# Altium schematic symbol library AMMDK Parts.SchLib: 29 symbols
Pins are listed as number, name and electrical type; pins without a type are passive.

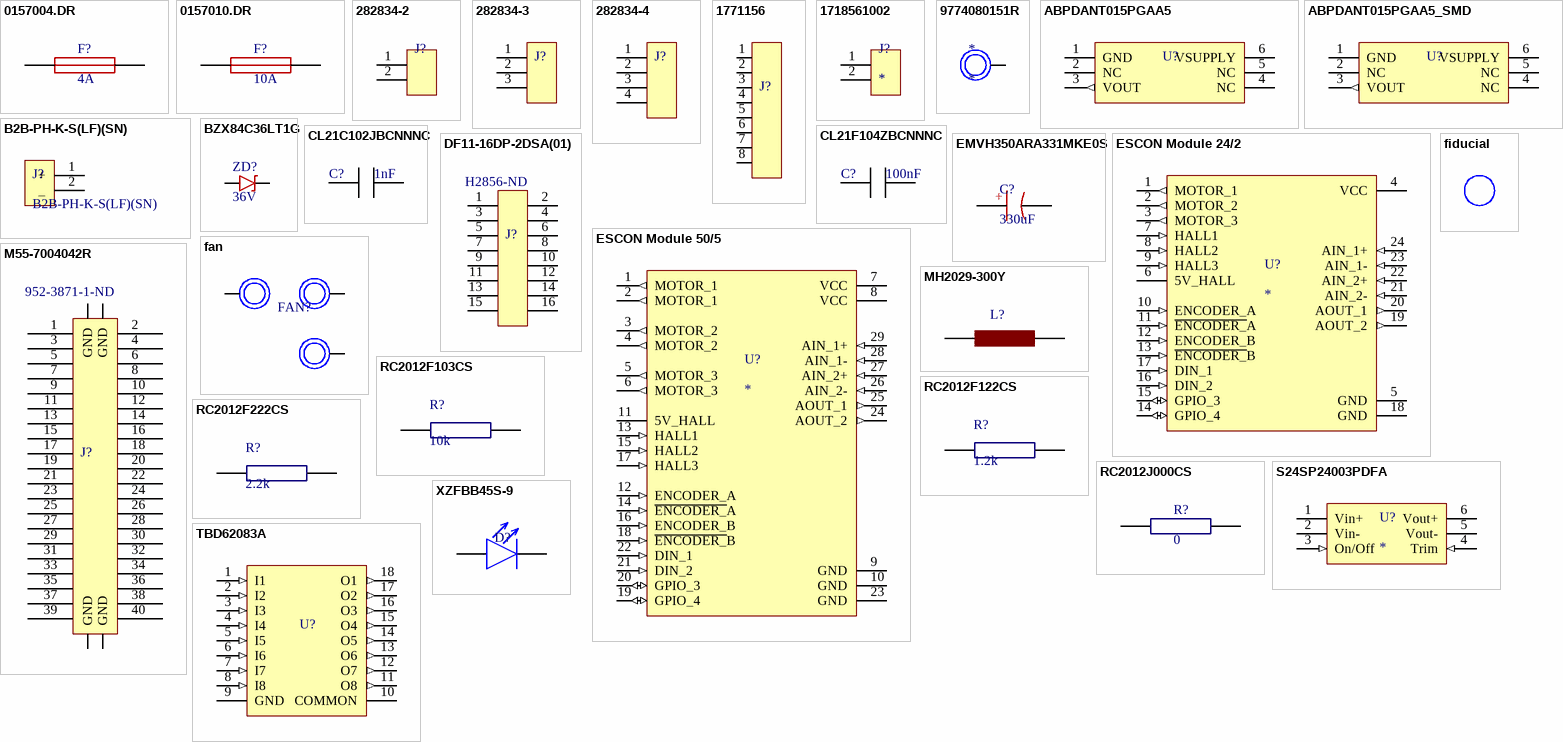
[diagram p0: symbols 0157004.DR to XZFBB45S-9]

## 0157004.DR
designator F?, comment 4A
FUSE BRD MNT 4A 125VAC/VDC 2SMD; Supplier 1: Digi-Key; Supplier Part Number 1: F2968CT-ND
footprint 0157004.DR
pins: 1, 2

## 0157010.DR
designator F?, comment 10A
FUSE BRD MNT 10A 125VAC/VDC SMD; Manufacturer: Littelfuse Inc.; Manufacturer Part Number: 0157010.DR; Fuse Type: Board Mount (Cartridge Style Excluded); Response Time: Fast; Breaking Capacity @ Rated Voltage: 35A AC, 50A DC; Approvals: cULus, PSE; Supplier 1: Digi-Key; RoHS: RoHS Compliant; Category: Circuit Protection; Stock 1: 6229; Pricing 1: 1=2.73, 5=2.6, 10=2.47, 50=1.9936, 100=1.6903, 250=1.64692, 500=1.38688 (USD); Packaging: Cut Tape (CT); Part Status: Active; Package / Case: 2-SMD, Square End Block with Clip; Mounting Type: Holder, Surface Mount; Operating Temperature: -55°C ~ 125°C; Color: -; Size / Dimension: 0.256" L x 0.146" W x 0.154" H (6.50mm x 3.70mm x 3.90mm); ComponentLink1URL: http://www.littelfuse.com/products/fuse-blocks-fuseholders-and-fuse-accessories/fuse-clips/~/media/electronics/datasheets/fuses/littelfuse_fuse_157_datasheet.pdf.pdf; ComponentLink1Description: http://www.littelfuse.com/products/fuse-blocks-fuseholders-and-fuse-accessories/fuse-clips/~/media/electronics/datasheets/fuses/littelfuse_fuse_157_datasheet.pdf.pdf; Supplier Part Number 1: F2973CT-ND
footprint 0157004.DR
pins: 1, 2

## 282834-2
designator J?  (value not drawn)
2 Position Wire to Board Terminal Block; Supplier 1: Digi-Key; Supplier Part Number 1: A98333-ND
footprint 282834-2
pins: 1, 2

## 282834-3
designator J?  (value not drawn)
3 Position Wire to Board Terminal Block; Supplier 1: Digi-Key; Supplier Part Number 1: A98334-ND
footprint 282834-3
pins: 1, 2, 3

## 282834-4
designator J?  (value not drawn)
4 Position Wire to Board Terminal Block; Supplier 1: Digi-Key; Supplier Part Number 1: A98335-ND
footprint 282834-4
pins: 1, 2, 3, 4

## 1771156
designator J?  (value not drawn)
CONN TERM BLK 8POS 2.5MM SMD; Manufacturer: Phoenix Contact; Positions Per Level: 8; Pitch: 0.098" (2.50mm); Mating Orientation: Vertical with Board; Wire Gauge: 20-26 AWG; Wire Termination: Screwless - Spring Cage, Tension Clamp; Supplier 1: Digi-Key; Manufacturer Part Number: 1771156; RoHS: RoHS Compliant; Category: Connectors, Interconnects; Stock 1: 2856; Pricing 1: 1=1.39, 10=1.334, 50=1.276, 100=1.2412 (USD); Packaging: Cut Tape (CT); Part Status: Active; Mounting Type: Surface Mount; Features: Solder Retention; Color: Black; Operating Temperature: -; Housing Material: Liquid Crystal Polymer (LCP); Contact Material - Plating: -; Clamp Material - Plating: -; Screw Material - Plating: -; Torque - Screw: -; Screw Thread: -; ComponentLink1URL: https://media.digikey.com/pdf/Data%20Sheets/Phoenix%20Contact%20PDFs/1771156.pdf; ComponentLink1Description: https://media.digikey.com/pdf/Data%20Sheets/Phoenix%20Contact%20PDFs/1771156.pdf; Supplier Part Number 1: 277-2078-1-ND
footprint 1771156 (CONN TERM BLK 8POS 2.5MM SMD)
pins: 1, 2, 3, 4, 5, 6, 7, 8

## 1718561002
designator J?
Headers & Wire Housings KK Hdr Vrt 2 Ckt 2.54mm Pitch 15um Au; Manufacturer: Molex; Manufacturer Part Number: 1718561002; Current Rating: 4A; Voltage Rating: 250V; Number of Positions: 2; Connector Type: Male Pin; Contact Post Length: 2.34mm; Glow Wire Compliant: Compliant; Supplier 1: Digi-Key; Stock 1: 499; Pricing 1: 1=0.45, 10=0.426, 100=0.2979, 500=0.2554, 1000=0.2128, 5000=0.1824, 10000=0.1702 (USD); Mount: Through Hole; Weight: 0.007549oz; Color: Black; Contact Plating: Gold; Contact Material: Brass; Housing Material: Nylon; Min Operating Temperature: -40°C; Max Operating Temperature: 105°C; Package Quantity: 6000; Packaging: Bulk; Number of Rows: 1; Fastening Type: Friction; Contact Gender: Male; Termination: Solder; Number of Contacts: 2; Orientation: Vertical; Number of Circuits: 2; Pitch: 2.54mm; Contact Mating Length: 0.293inch; Radiation Hardening: No; Halogen Free: Low Halogen; Flammability Rating: UL94 V-2; ComponentLink1URL: http://www.mouser.com/ds/2/276/1718561002_PCB_HEADERS-294894.pdf?src-supplier=Mouser; ComponentLink1Description: http://www.mouser.com/ds/2/276/1718561002_PCB_HEADERS-294894.pdf?src-supplier=Mouser; Supplier Part Number 1: WM10286-ND
footprint 1718561002
pins: 1, 2

## 9774080151R
designator *
RND STANDOFF M2.5X0.45 STEEL 8MM; Manufacturer: Wurth Electronics; Manufacturer Part Number: 9774080151R; Plating: Tin; Threaded/Unthreaded: Threaded; Outside Diameter: 0.201inch; Supplier 1: Digi-Key; Stock 1: 236; Pricing 1: 1=0.95, 10=0.918, 50=0.795, 100=0.739 (USD); Material: Steel; Length: 0.37inch; REACH SVHC: Unknown; Supplier Part Number 1: 732-7110-1-ND
footprint 9774080151r (M2.5 Standoff)
pins: 1

## ABPDANT015PGAA5
designator U?  (value not drawn)
Pressure Sensor 15 PSIG; Supplier 1: Digi-Key; Supplier Part Number 1: 480-6253-ND
footprint DIP6
pins: 1 GND (power), 2 NC, 3 VOUT (out), 4 NC, 5 NC, 6 VSUPPLY (power)

## ABPDANT015PGAA5_SMD
designator U?  (value not drawn)
Pressure Sensor 15 PSIG; Supplier 1: Digi-Key; Supplier Part Number 1: 480-6253-ND; Supplier 2: Digi-Key; Supplier Part Number 2: SAM1148-03-ND
footprint DIP6 SMD
pins: 1 GND (power), 2 NC, 3 VOUT (out), 4 NC, 5 NC, 6 VSUPPLY (power)

## B2B-PH-K-S(LF)(SN)
designator J?
2 Positions Header, Shrouded Connector 0.079" (2.00mm) Through Hole Tin; Manufacturer: JST; Connector Type: Male Pin; Contact Resistance: 20mR; Max Current Rating: 2A; Number of Positions: 2; Max Voltage Rating (AC): 100V; Insulation Resistance: 1MR; Gender: Male; Pitch: 2mm; Supplier 1: Digi-Key; Manufacturer Part Number: B2B-PH-K-S(LF)(SN); Stock 1: 186780; Pricing 1: 1=0.17, 10=0.162, 100=0.1002, 500=0.08288, 1000=0.07252, 5000=0.06216, 10000=0.06044 (USD); Mount: Through Hole; Number of Pins: 2; Contact Material: Brass,Tin; Contact Plating: Copper,Tin; Colour: Natural; Housing Colour: White; Housing Material: Polyamide; Min Operating Temperature: -25°C; Max Operating Temperature: 85°C; Termination: Solder; Number of Rows: 1; Current Rating: 2A; Packaging: Bulk; Fastening Type: Detent; Number of Contacts: 2; Working Voltage: 100V; Orientation: Straight; Number of Poles: 2; Voltage Rating: 100V; Voltage Rating (AC): 100V; Max Voltage Rating (DC): 100V; Length: 5.9mm; Height: 9.4mm; Width: 4.5mm; Depth: 4.5mm; Lead Pitch: 2mm; Contact Mating Length: 0.13inch; REACH SVHC: No SVHC; Lead Free: Lead Free; ComponentLink1URL: https://datasheet.ciiva.com/6747/80560-6747392.pdf; ComponentLink1Description: https://datasheet.ciiva.com/6747/80560-6747392.pdf; ComponentLink2URL: https://datasheet.ciiva.com/11746/0900766b8082f551-11746676.pdf; ComponentLink2Description: https://datasheet.ciiva.com/11746/0900766b8082f551-11746676.pdf; ComponentLink3URL: https://datasheet.ciiva.com/8052/80560-8052022.pdf; ComponentLink3Description: https://datasheet.ciiva.com/8052/80560-8052022.pdf; ComponentLink4URL: https://datasheet.ciiva.com/712/eph-712442.pdf; ComponentLink4Description: https://datasheet.ciiva.com/712/eph-712442.pdf; ComponentLink5URL: https://datasheet.ciiva.com/16422/b2b-ph-k-slfsn-16422715.pdf; ComponentLink5Description: https://datasheet.ciiva.com/16422/b2b-ph-k-slfsn-16422715.pdf; Supplier Part Number 1: 455-1704-ND
footprint B2B-PH-K-S(LF)(SN)
pins: 1 + (power), 2 _ (power)

## BZX84C36LT1G
designator ZD?, comment 36V
Zener Diode 36V 225mW ±6%; Supplier 1: Digi-Key; Supplier Part Number 1: BZX84C36LT1GOSCT-ND
footprint SOT95P237X111-3N (SOT23, 3-Leads, Body 2.92x2.37mm, Pitch 0.95mm, IPC Medium Density); pin to pad A>1 K>3
pins: A, K

## CL21C102JBCNNNC
designator C?, comment 1nF
CAP CER 1nF 50V C0G/NP0 0805; Manufacturer: Samsung Electro-Mechanics America, Inc.; Manufacturer Part Number: CL21F104ZBCNNNC; Capacitance: 0.10µF; Tolerance: -20%, +80%; Temperature Coefficient: Y5V (F); RoHS: RoHS Compliant; Category: Capacitors; Packaging: Cut Tape (CT); Voltage - Rated: 50V; Mounting Type: Surface Mount, MLCC; Operating Temperature: -30°C ~ 85°C; Applications: General Purpose; Ratings: -; Package / Case: 0805 (2012 Metric); Size / Dimension: 0.079" L x 0.049" W (2.00mm x 1.25mm); Height - Seated (Max): -; Thickness (Max): 0.037" (0.95mm); Lead Spacing: -; Features: -; Lead Style: -; ComponentLink1URL: http://www.samsungsem.com/kr/support/product-search/mlcc/CL21F104ZBCNNNC.jsp; ComponentLink1Description: http://www.samsungsem.com/kr/support/product-search/mlcc/CL21F104ZBCNNNC.jsp; Supplier 1: Digi-Key; Supplier Part Number 1: 1276-1147-1-ND
footprint CAPC2012X09N (Chip Capacitor, 2-Leads, Body 2.00x1.25mm, IPC Medium Density)
pins: 1, 2

## CL21F104ZBCNNNC
designator C?, comment 100nF
CAP CER 0.1UF 50V Y5V 0805; Manufacturer: Samsung Electro-Mechanics America, Inc.; Manufacturer Part Number: CL21F104ZBCNNNC; Capacitance: 0.10µF; Tolerance: -20%, +80%; Temperature Coefficient: Y5V (F); Supplier 1: Digi-Key; RoHS: RoHS Compliant; Category: Capacitors; Stock 1: 1030146; Pricing 1: 1=0.1, 10=0.031, 25=0.022, 50=0.017, 100=0.0144, 500=0.01004, 1000=0.00783 (USD); Packaging: Cut Tape (CT); Voltage - Rated: 50V; Mounting Type: Surface Mount, MLCC; Operating Temperature: -30°C ~ 85°C; Applications: General Purpose; Ratings: -; Package / Case: 0805 (2012 Metric); Size / Dimension: 0.079" L x 0.049" W (2.00mm x 1.25mm); Height - Seated (Max): -; Thickness (Max): 0.037" (0.95mm); Lead Spacing: -; Features: -; Lead Style: -; ComponentLink1URL: http://www.samsungsem.com/kr/support/product-search/mlcc/CL21F104ZBCNNNC.jsp; ComponentLink1Description: http://www.samsungsem.com/kr/support/product-search/mlcc/CL21F104ZBCNNNC.jsp; Supplier Part Number 1: 1276-1007-1-ND
footprint CAPC2012X09N (Chip Capacitor, 2-Leads, Body 2.00x1.25mm, IPC Medium Density)
pins: 1, 2

## DF11-16DP-2DSA(01)
designator J?  Supplier Part Number 1: H2856-ND  (hidden comment: *)
Headers & Wire Housings 2MM V PCB HEADER 16P DR THRU-HOLE GLD; Manufacturer: Hirose Connector; Manufacturer Part Number: DF11-16DP-2DSA(01); Current Rating: 2 A; Mounting Angle: Vertical; Number of Positions: 16 Position; Voltage Rating: 250 V; RoHS: RoHS Compliant; Category: Headers & Wire Housings; Contact Plating: Gold; Number of Rows: 2 Row; Packaging: Bulk; Product: Headers; Series: DF11; Termination Style: Through Hole; Type: Shrouded; Brand: Hirose Connector; Contact Material: Brass; Mounting Style: -; Pitch: 2 mm; Standard Pack Qty: 100; RoHS - Mouser: Y; Minimum Order Quantity: 1; Reeling: False; ComponentLink1URL: http://www.mouser.com/datasheet/2/185/DF11_catalog-939040.pdf; ComponentLink1Description: http://www.mouser.com/datasheet/2/185/DF11_catalog-939040.pdf; Supplier 1: Digi-Key
footprint DF11-16DP-2DSA(01)_FLIP
pins: 1 (power), 2 (power), 3 (power), 4 (power), 5 (power), 6 (power), 7 (power), 8 (power), 9 (power), 10 (power), 11 (power), 12 (power), 13 (power), 14 (power), 15 (power), 16 (power)

## EMVH350ARA331MKE0S
designator C?, comment 330uF
CAP ALUM 330UF 20% 35V SMD; Supplier 1: Digi-Key; Supplier Part Number 1: 565-2316-1-ND
footprint CAPAE137130X140M (Aluminum Electrolytic Capacitor, Body 13.00x13.00x14.00mm, IPC Low Density)
pins: 1, 2
text: +

## ESCON Module 24/2
designator U?
4-Q servo controller for DC/EC motors, 2/6 A, 10-24 VDC
footprint ESCON Module 24/2
pins: 1 MOTOR_1 (out), 2 MOTOR_2 (out), 3 MOTOR_3 (out), 4 VCC (power), 5 GND (power), 6 5V_HALL (power), 7 HALL1 (in), 8 HALL2 (in), 9 HALL3 (in), 10 ENCODER_A (in), 11 ~{ENCODER_}A (in), 12 ENCODER_B (in), 13 ~{ENCODER_}B (in), 14 GPIO_4 (io), 15 GPIO_3 (io), 16 DIN_2 (in), 17 DIN_1 (in), 18 GND (power), 19 AOUT_2 (out), 20 AOUT_1 (out), 21 AIN_2- (in), 22 AIN_2+ (in), 23 AIN_1- (in), 24 AIN_1+ (in)

## ESCON Module 50/5
designator U?
4-Q servo controller for DC/EC motors, 2/6 A, 10-50 VDC; Supplier 1: Digi-Key; Supplier 2: Digi-Key; Supplier Part Number 1: SAM1152-11-ND; Supplier Part Number 2: SAM1146-09-ND
footprint ESCON Module 50/5 SMD
pins: 1 MOTOR_1 (out), 2 MOTOR_1 (out), 3 MOTOR_2 (out), 4 MOTOR_2 (out), 5 MOTOR_3 (out), 6 MOTOR_3 (out), 7 VCC (power), 8 VCC (power), 9 GND (power), 10 GND (power), 11 5V_HALL (power), 12 ENCODER_A (in), 13 HALL1 (in), 14 ~{ENCODER_}A (in), 15 HALL2 (in), 16 ENCODER_B (in), 17 HALL3 (in), 18 ~{ENCODER_}B (in), 19 GPIO_4 (io), 20 GPIO_3 (io), 21 DIN_2 (in), 22 DIN_1 (in), 23 GND (power), 24 AOUT_2 (out), 25 AOUT_1 (out), 26 AIN_2- (in), 27 AIN_2+ (in), 28 AIN_1- (in), 29 AIN_1+ (in)

## fan
designator FAN?
RND STANDOFF M2.5X0.45 STEEL 8MM; Manufacturer: Wurth Electronics; Manufacturer Part Number: 9774080151R; Plating: Tin; Threaded/Unthreaded: Threaded; Outside Diameter: 0.201inch; Supplier 1: Digi-Key; Stock 1: 236; Pricing 1: 1=0.95, 10=0.918, 50=0.795, 100=0.739 (USD); Material: Steel; Length: 0.37inch; REACH SVHC: Unknown; Supplier Part Number 1: 732-7110-1-ND
footprint fan (25mm fan)
pins: 1, 2, 3

## fiducial
designator FID?, comment FID?  (value not drawn)
footprint fiducial

## M55-7004042R
designator J?  Supplier Part Number 1: 952-3871-1-ND  (hidden comment: *)
Board to Board & Mezzanine Connectors 40P 1.27 SMC Male; Manufacturer: Harwin; Manufacturer Part Number: M55-7004042R; Current Rating: 1.2 A; Mounting Angle: Straight; Number of Positions: 40 Position; Voltage Rating: 100 V; Pitch: 1.27 mm; Insulation Resistance: 10 GOhms; Stack Height: 6.75 mm; Product Status: New Product; RoHS: RoHS Compliant; Category: Board to Board & Mezzanine Connectors; Contact Plating: Gold; Housing Material: Liquid Crystal Polymer (LCP); Number of Rows: 2 Row; Packaging: Cut Tape; Product: Headers; Termination Style: SMD/SMT; Brand: Harwin; Contact Material: Phosphor Bronze; Flammability Rating: UL 94 V-0; Mounting Style: Mounting Peg; Maximum Operating Temperature: + 125 C; Minimum Operating Temperature: - 55 C; Standard Pack Qty: 500; Termination Post Length: 4 mm; Tradename: Archer Kontrol; RoHS - Mouser: Y; Minimum Order Quantity: 1; Reeling: True; ComponentLink1URL: http://www.mouser.com/datasheet/2/181/M55-70X-1286676.pdf; ComponentLink1Description: http://www.mouser.com/datasheet/2/181/M55-70X-1286676.pdf; Supplier 1: Digi-Key
footprint M55-7004042R_FLIP (M55-7004042R)
pins: 1, 2, 3, 4, 5, 6, 7, 8, 9, 10, 11, 12, 13, 14, 15, 16, 17, 18, 19, 20, 21, 22, 23, 24, 25, 26, 27, 28, 29, 30, 31, 32, 33, 34, 35, 36, 37, 38, 39, 40, GND, GND, GND, GND

## MH2029-300Y
designator L?  (value not drawn)
EMI Filter Beads, Chips & Arrays Impedance 30ohms IDC 3.0; Manufacturer: Bourns; Maximum DC Current: 3 A; Maximum DC Resistance: 25 mOhms; Tolerance: 25 %; Type: High Current Chip Ferrite Bead; Test Frequency: 100 MHz; Filter Type: Power, Signal Line; Number of Lines: 1; Impedance @ Frequency: 30 Ohm @ 100MHz; Current Rating (Max): 3A; DC Resistance (DCR) (Max): 25 mOhm; Manufacturer Part Number: MH2029-300Y; RoHS: RoHS Compliant; Category: EMI Filter Beads, Chips & Arrays; Pricing 1: 1=0.1, 10=0.062, 25=0.0568, 50=0.051, 100=0.0375, 250=0.02724, 500=0.02498, 1000=0.02157 (USD); Capacitance: -; Height: 0.9 mm; Impedance: 30 Ohms; Length: 2 mm; Operating Temperature Range: - 55 C to + 125 C; Package / Case: 0805 (2012 metric); Packaging: Reel; Product: Ferrite Chip Beads; Termination Style: SMD/SMT; Width: 1.2 mm; Brand: Bourns; Product Category: SMD Ferrite Bead; Standard Pack Qty: 4000; RoHS - Mouser: Y; Minimum Order Quantity: 1; Reeling: True; ComponentLink1URL: http://www.mouser.com/ds/2/54/h-777565.pdf; ComponentLink1Description: http://www.mouser.com/ds/2/54/h-777565.pdf; Supplier 1: Digi-Key; Stock 1: 62738; Ratings: -; Operating Temperature: -55°C ~ 125°C; Mounting Type: Surface Mount; Height (Max): 0.043" (1.10mm); Size / Dimension: 0.079" L x 0.047" W (2.00mm x 1.20mm); ComponentLink2URL: http://www.bourns.com/docs/Product-Datasheets/mh.pdf; ComponentLink2Description: http://www.bourns.com/docs/Product-Datasheets/mh.pdf; Supplier Part Number 1: MH2029-300YCT-ND
footprint INDC2012X11N (Chip Inductor, 2-Leads, Body 2.00x1.20mm, IPC Medium Density)
pins: 1, 2

## RC2012F103CS
designator R?, comment 10k
RES SMD 10K OHM 1% 1/8W 0805; Manufacturer: Samsung Electro-Mechanics America, Inc.; Manufacturer Part Number: RC2012F103CS; Power (Watts): 0.125W, 1/8W; Temperature Coefficient: ±100ppm/°C; RoHS: RoHS Compliant; Category: Resistors; Packaging: Cut Tape (CT); Resistance (Ohms): 10k; Tolerance: ±1%; Composition: Thick Film; Features: Moisture Resistant; Operating Temperature: -55°C ~ 155°C; Package / Case: 0805 (2012 Metric); Supplier Device Package: 0805 (2012 Metric); Size / Dimension: 0.079" L x 0.049" W (2.00mm x 1.25mm); Height: 0.024" (0.60mm); Number of Terminations: 2; ComponentLink1URL: http://media.digikey.com/pdf/Data%20Sheets/Samsung%20PDFs/RC_Series_ds.pdf; ComponentLink1Description: http://media.digikey.com/pdf/Data%20Sheets/Samsung%20PDFs/RC_Series_ds.pdf; Supplier 1: Digi-Key; Supplier Part Number 1: 1276-5332-1-ND
footprint RESC2012X07N_SAMSUNG (Chip Resistor, 2-Leads, Body 2.00x1.25mm, IPC Medium Density)
pins: 1, 2

## RC2012F122CS
designator R?, comment 1.2k
RES SMD 1.2K OHM 1% 1/8W 0805; Manufacturer: Samsung Electro-Mechanics America, Inc.; Manufacturer Part Number: RC2012F103CS; Resistance (Ohms): 10k; Power (Watts): 0.125W, 1/8W; Temperature Coefficient: ±100ppm/°C; RoHS: RoHS Compliant; Category: Resistors; Packaging: Cut Tape (CT); Tolerance: ±1%; Composition: Thick Film; Features: Moisture Resistant; Operating Temperature: -55°C ~ 155°C; Package / Case: 0805 (2012 Metric); Supplier Device Package: 0805 (2012 Metric); Size / Dimension: 0.079" L x 0.049" W (2.00mm x 1.25mm); Height: 0.024" (0.60mm); Number of Terminations: 2; ComponentLink1URL: http://media.digikey.com/pdf/Data%20Sheets/Samsung%20PDFs/RC_Series_ds.pdf; ComponentLink1Description: http://media.digikey.com/pdf/Data%20Sheets/Samsung%20PDFs/RC_Series_ds.pdf; Supplier 1: Digi-Key; Supplier Part Number 1: 1276-5275-1-ND
footprint RESC2012X07N_SAMSUNG (Chip Resistor, 2-Leads, Body 2.00x1.25mm, IPC Medium Density)
pins: 1, 2

## RC2012F222CS
designator R?, comment 2.2k
RES SMD 2.2K OHM 1% 1/8W 0805; Manufacturer: Samsung Electro-Mechanics America, Inc.; Manufacturer Part Number: RC2012F103CS; Resistance (Ohms): 10k; Power (Watts): 0.125W, 1/8W; Temperature Coefficient: ±100ppm/°C; RoHS: RoHS Compliant; Category: Resistors; Packaging: Cut Tape (CT); Tolerance: ±1%; Composition: Thick Film; Features: Moisture Resistant; Operating Temperature: -55°C ~ 155°C; Package / Case: 0805 (2012 Metric); Supplier Device Package: 0805 (2012 Metric); Size / Dimension: 0.079" L x 0.049" W (2.00mm x 1.25mm); Height: 0.024" (0.60mm); Number of Terminations: 2; ComponentLink1URL: http://media.digikey.com/pdf/Data%20Sheets/Samsung%20PDFs/RC_Series_ds.pdf; ComponentLink1Description: http://media.digikey.com/pdf/Data%20Sheets/Samsung%20PDFs/RC_Series_ds.pdf; Supplier 1: Digi-Key; Supplier Part Number 1: 1276-5290-1-ND
footprint RESC2012X07N_SAMSUNG (Chip Resistor, 2-Leads, Body 2.00x1.25mm, IPC Medium Density)
pins: 1, 2

## RC2012J000CS
designator R?, comment 0
Res Thick Film 0805 0 Ohm Molded SMD T/R; Manufacturer: Samsung; Manufacturer Part Number: RC2012J000CS; Resistance: 0mR; Tolerance: 5%; Power Rating: 125mW; Temperature Coefficient: 200ppm/°C; Supplier 1: Digi-Key; Stock 1: 259132; Pricing 1: 1=0.1, 10=0.052, 25=0.0372, 50=0.0284, 100=0.021, 250=0.016, 500=0.0128, 1000=0.0094 (USD); Mount: Surface Mount; Case/Package: 0805; Contact Plating: Tin; Case Code (Metric): 2012; Case Code (Imperial): 0805; Min Operating Temperature: -55°C; Max Operating Temperature: 155°C; Composition: Thick Film; Packaging: Tape and Reel; Number of Terminations: 2; Military Standard: Not; Max Power Dissipation: 125mW; Features: Moisture Resistant; Length: 2mm; Height: 0.024inch; Width: 0.049inch; Depth: 1.25mm; Radiation Hardening: No; ComponentLink1URL: https://www.verical.com/server-webapp/html/getDatasheet?partID=666031&src-supplier=Verical; ComponentLink1Description: https://www.verical.com/server-webapp/html/getDatasheet?partID=666031&src-supplier=Verical; ComponentLink2URL: http://www1.futureelectronics.com/doc/SAMSUNG%20PASSIVE/SAMSUNG%20PASSIVE%20RC1608F4303CS.pdf?src-supplier=Future+Electronics; ComponentLink2Description: http://www1.futureelectronics.com/doc/SAMSUNG%20PASSIVE/SAMSUNG%20PASSIVE%20RC1608F4303CS.pdf?src-supplier=Future+Electronics; ComponentLink3URL: http://www.samsungsem.com/kr/support/product-search/chip-resistor/RC2012J000CS.jsp?src-supplier=Digi-Key; ComponentLink3Description: http://www.samsungsem.com/kr/support/product-search/chip-resistor/RC2012J000CS.jsp?src-supplier=Digi-Key; ComponentLink4URL: http://datasheet.iiic.cc/samsung_[electro-mechanics]/RC2012J000CS.pdf?src-supplier=IIIC; ComponentLink4Description: http://datasheet.iiic.cc/samsung_[electro-mechanics]/RC2012J000CS.pdf?src-supplier=IIIC; Supplier Part Number 1: 1276-5466-1-ND
footprint RESC2012X07N_SAMSUNG (Chip Resistor, 2-Leads, Body 2.00x1.25mm, IPC Medium Density)
pins: 1, 2

## S24SP24003PDFA
designator U?
DC/DC CONVERTER 24V 60W; Supplier 1: Digi-Key; Supplier Part Number 1: 941-1761-ND
footprint S24SP24003
pins: 1 Vin+ (power), 2 Vin- (power), 3 On/Off (in), 4 Trim (in), 5 Vout- (power), 6 Vout+ (power)

## TBD62083A
designator U?  (value not drawn)
8channel source type DMOS transistor array; Supplier 1: Digi-Key; Supplier Part Number 1: TBD62083AFNGELCT-ND
footprint TSOP65P640X155-18N (TSOP, 18-Leads, Body 6.60x4.40mm, Pitch 0.65mm, IPC Medium Density)
pins: 1 I1 (in), 2 I2 (in), 3 I3 (in), 4 I4 (in), 5 I5 (in), 6 I6 (in), 7 I7 (in), 8 I8 (in), 9 GND (power), 10 COMMON (power), 11 O8 (out), 12 O7 (out), 13 O6 (out), 14 O5 (out), 15 O4 (out), 16 O3 (out), 17 O2 (out), 18 O1 (out)

## XZFBB45S-9
designator D?  (value not drawn)
LED BLUE CLEAR 2PLCC SMD; Manufacturer: SunLED; Configuration: Standard; Lens Color: Colorless; Millicandela Rating: 447mcd; Lens Style: Round with Flat Top; Lens Size: 2.40mm Dia; Voltage - Forward (Vf) (Typ): 3.3V; Current - Test: 20mA; Viewing Angle: 120°; Wavelength - Dominant: 470nm; Wavelength - Peak: 465nm; Supplier 1: Digi-Key; Manufacturer Part Number: XZFBB45S-9; RoHS: RoHS Compliant; Category: Optoelectronics; Stock 1: 5275; Pricing 1: 1=0.83, 10=0.651, 25=0.5456, 100=0.4752, 250=0.4224, 500=0.3696, 1000=0.2992 (USD); Packaging: Cut Tape (CT); Part Status: Active; Color: Blue; Lens Transparency: Clear; Mounting Type: Surface Mount, Bottom Entry; Features: -; Package / Case: 2-SMD, Z-Bend; Supplier Device Package: 2-PLCC; Size / Dimension: 3.20mm L x 2.80mm W; Height (Max): 1.90mm; ComponentLink1URL: http://www.sunledusa.com/products/spec/XZFBB45S-9.pdf; ComponentLink1Description: http://www.sunledusa.com/products/spec/XZFBB45S-9.pdf; Supplier Part Number 1: 1497-1233-1-ND
footprint PLCC-2 (Reverse gullwing LED)
pins: 1, 2